# Altium footprint library PcbLib1.PcbLib: 2 footprints
Each footprint in its own frame and in the unit in brackets; x right, y up, seen from the top. Pads: shape width x height; smd on the part's side, far side on the other; paste and mask are expansions set on the pad; w line width, h text height; cw(c..) or ccw(c..) is an arc to the next point about the centre after c.
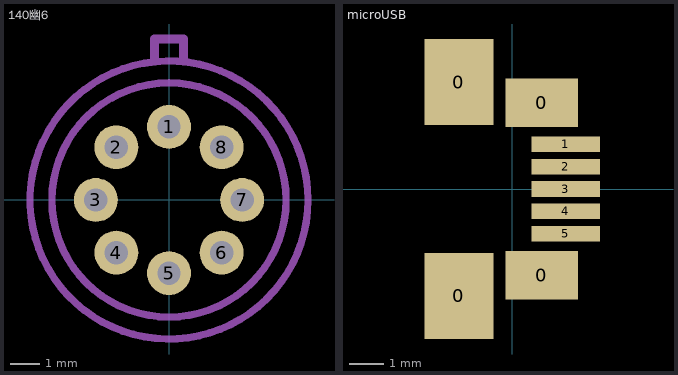
[diagram p0: the footprints below, top view; thin cyan lines are the x and y axes]

## 140幽6 [mm]
height 5
pads (8):
  round 1.5 hole 0.8: 1(0,2.5) 2(-1.8,1.8) 3(-2.5,0) 4(-1.8,-1.8) 5(0,-2.5) 6(1.8,-1.8) 7(2.5,0) 8(1.8,1.8)
Mechanical 13:
  circle w0.25: c0,0 r4
  circle w0.25: c0,0 r4.75
  lines w0.3: -0.5,4.75 -0.5,5.5 0.5,5.5 0.5,4.75

## microUSB [mm]
height 3
pads (9):
  rect 2x2.5 smd: 0(-1.55,-3.1) 0(-1.55,3.1)
  rect 2.1x1.4 smd: 0(0.85,-2.5) 0(0.85,2.5)
  rect 2x0.45 smd: 1(1.55,1.3) 2(1.55,0.65) 3(1.55,0) 4(1.55,-0.65) 5(1.55,-1.3)